# Altium schematic symbol library DW03.SchLib: 1 symbol
Pins are listed as number, name and electrical type; pins without a type are passive.

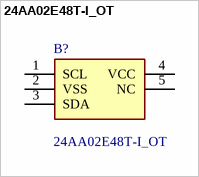
[diagram p0: symbol 24AA02E48T-I_OT]

## 24AA02E48T-I_OT
designator B?
2K 256X8 1.8V Ser.EEPROM,24AA02E48T-I/OT; Manufacturer_Name: Microchip; Geometry.Height: 1.45mm; Manufacturer_Part_Number: 24AA02E48T-I/OT; Mouser Part Number: 579-24AA02E48TIOT; Mouser Price/Stock: https://www.mouser.co.uk/ProductDetail/Microchip-Technology/24AA02E48T-I-OT?qs=h8kCHL4kpM5dzsPTuTrxSQ%3D%3D; Arrow Part Number: 24AA02E48T-I/OT; Arrow Price/Stock: https://www.arrow.com/en/products/24aa02e48t-iot/microchip-technology?utm_currency=USD&region=nac; Datasheet Link: https://datasheet.datasheetarchive.com/originals/distributors/SFDatasheet-11/sf-000234844.pdf
footprint SOT95P270X145-5N
pins: 1 SCL, 2 VSS, 3 SDA, 4 VCC, 5 NC